# Altium footprint library Lib.PcbLib: 35 footprints (part 2 of 3)
Each footprint in its own frame and in the unit in brackets; x right, y up, seen from the top. Pads: shape width x height; smd on the part's side, far side on the other; paste and mask are expansions set on the pad; w line width, h text height; cw(c..) or ccw(c..) is an arc to the next point about the centre after c.
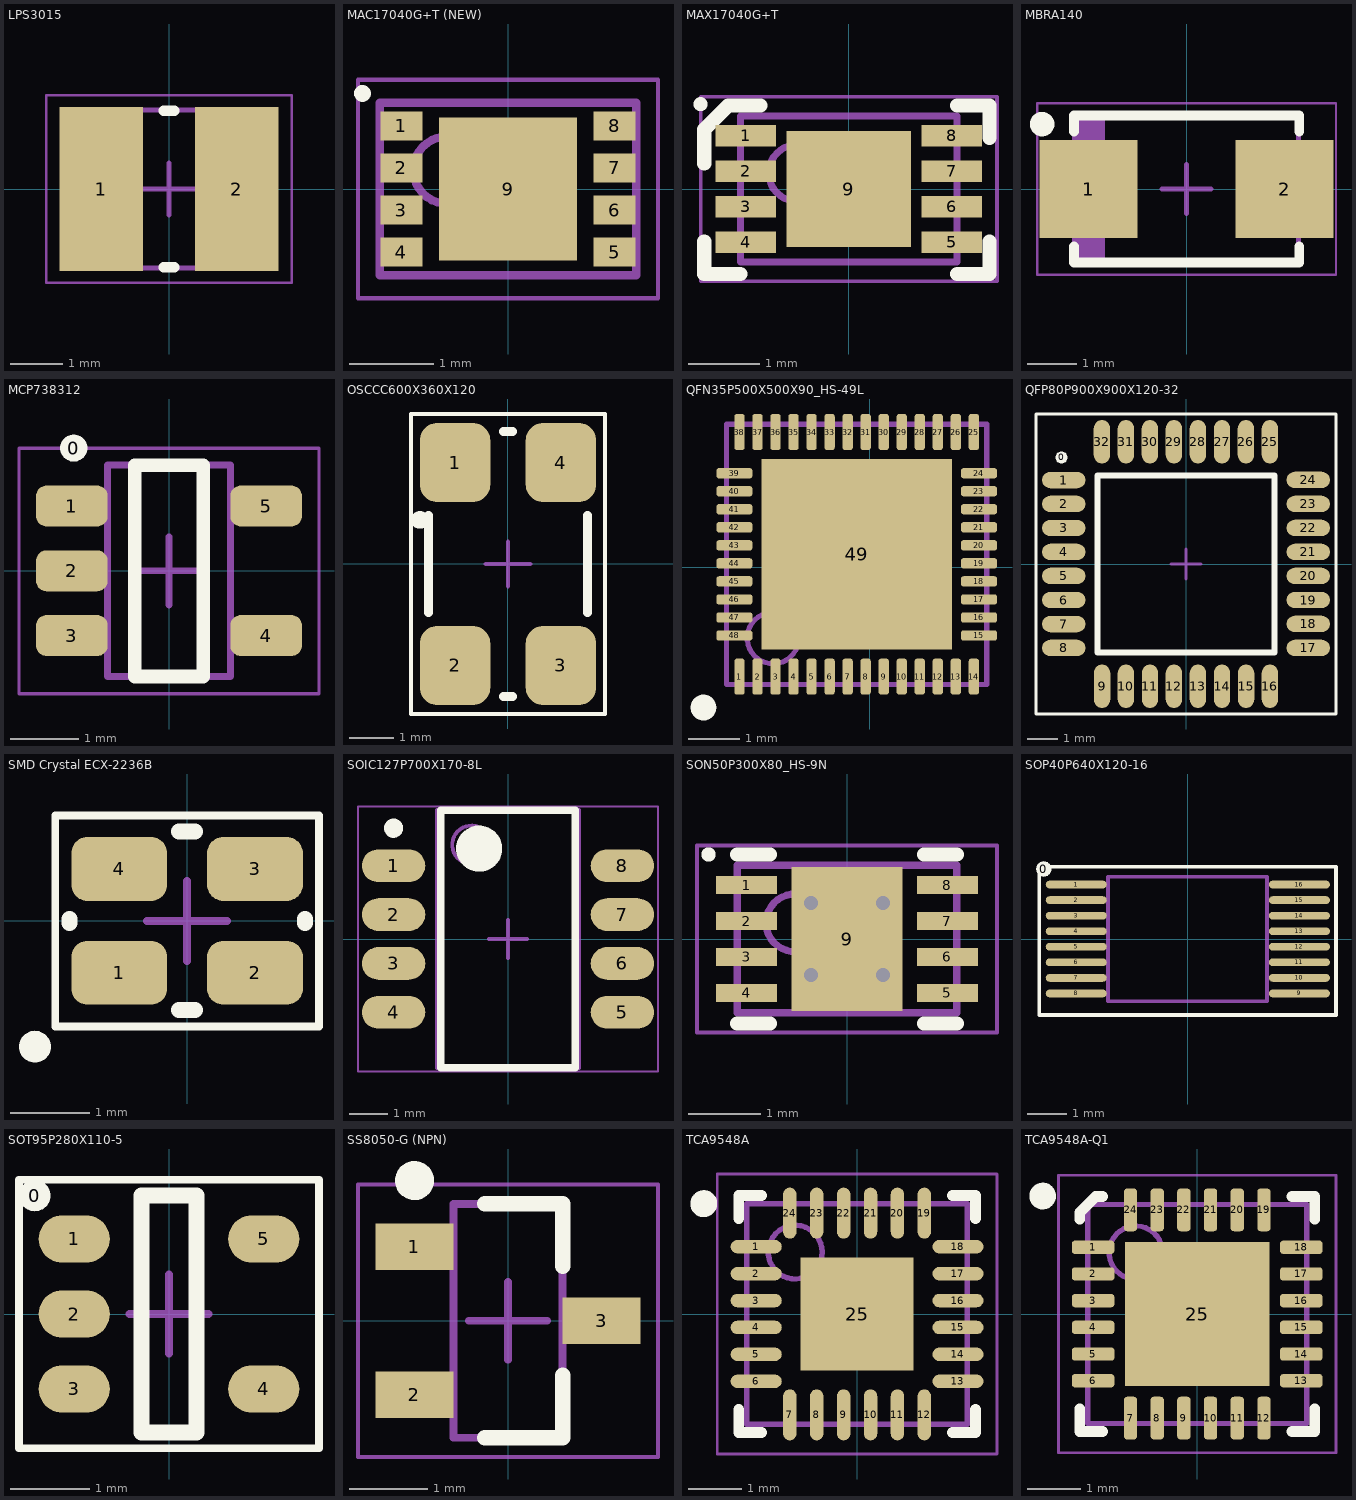
[diagram p1: the footprints below, top view; thin cyan lines are the x and y axes]

## LPS3015 [mm] "Inductor 1u5H"
height 1.5
pads (2):
  rect 1.6x3.15 smd: 1(-1.3,0) 2(1.3,0)
Top Overlay:
  lines w0.2: -0.1,-1.5 0.1,-1.5 ; -0.1,1.5 0.1,1.5
Mechanical 13:
  lines w0.1: -1.515,-1.515 -1.515,1.515 1.515,1.515 1.515,-1.515 -1.515,-1.515
Mechanical 15:
  lines w0.05: -2.35,-1.8 -2.35,1.8 2.35,1.8 2.35,-1.8 -2.35,-1.8
  lines w0.1: -0.5,0 0.5,0 ; 0,-0.5 0,0.5
3D body: height 1.5, standoff 0, extent -1.515,-1.515 1.515,1.515

## MAC17040G+T (NEW) [mm] "PSON, 8-Leads, Body 2,00x3,00mm, Pitch 0,50mm, Thermal Pad 1,70x1,64mm, IPC Medium Density"
height 0.75
pads (9):
  rect 0.5x0.35 smd: 1(-1.27,0.75) 2(-1.27,0.25) 3(-1.27,-0.25) 4(-1.27,-0.75) 5(1.27,-0.75) 6(1.27,-0.25) 7(1.27,0.25) 8(1.27,0.75)
  rect 1.64x1.7 smd: 9(0,0)
Top Overlay:
  circle w0.1: c-1.732,1.137 r0.05
Mechanical 13:
  circle w0.1: c-0.725,0.225 r0.4
  lines w0.1: -1.525,-1.025 1.525,-1.025 1.525,1.025 -1.525,1.025 -1.525,-1.025
Mechanical 15:
  lines w0.05: -1.785,-1.3 1.785,-1.3 1.785,1.3 -1.785,1.3 -1.785,-1.3
  lines w0.1: -0.5,0 0.5,0 ; 0,-0.5 0,0.5
3D body: height 0.75, standoff 0.02, extent -1.525,-1.025 1.525,1.025

## MAX17040G+T [mm] "Battery Management IC"
height 0.8
pads (9):
  rect 0.85x0.3 smd: 1(-1.45,0.75) 2(-1.45,0.25) 3(-1.45,-0.25) 4(-1.45,-0.75) 5(1.45,-0.75) 6(1.45,-0.25) 7(1.45,0.25) 8(1.45,0.75)
  rect 1.75x1.63 smd: 9(0,0)
Top Overlay:
  circle w0.1: c-2.085,1.194 r0.05
  lines w0.2: -2.032,-0.739 -2.032,-1.194 -1.526,-1.194 ; -2.032,0.358 -2.032,0.813 ; -2.032,0.838 -1.695,1.175 -1.24,1.175 ; 1.525,-1.194 1.98,-1.194 ; 1.525,1.175 1.98,1.175 1.98,0.72 ; 1.981,-1.194 1.981,-0.739
Mechanical 13:
  circle w0.1: c-0.725,0.225 r0.4
  lines w0.1: -1.525,-1.025 1.525,-1.025 1.525,1.025 -1.525,1.025 -1.525,-1.025
Mechanical 15:
  lines w0.05: -2.085,-1.3 2.085,-1.3 2.085,1.3 -2.085,1.3 -2.085,-1.3
  lines w0.1: -0.5,0 0.5,0 ; 0,-0.5 0,0.5
3D body: height 0.8, standoff 0.05, extent -1.525,-1.025 1.525,1.025

## MBRA140 [mm] "Molded Diode, 2-Leads, Body 4,31x2,60mm, IPC Medium Density"
height 2.2
pads (2):
  rect 2x2 smd: 1(-2,0) 2(2,0)
Top Overlay:
  circle w0.25: c-2.95,1.325 r0.125
  lines w0.2: -2.3,-1.175 -2.3,-1.5 2.3,-1.5 2.3,-1.175 ; -2.3,1.175 -2.3,1.5 2.3,1.5 2.3,1.175
Mechanical 13:
  rectangle: -2.285,-1.46 -1.67,1.46
  lines w0.1: -2.285,-1.46 -2.285,1.46 2.285,1.46 2.285,-1.46 -2.285,-1.46
Mechanical 15:
  lines w0.05: -3.05,-1.75 -3.05,1.75 3.05,1.75 3.05,-1.75 -3.05,-1.75
  lines w0.1: -0.5,0 0.5,0 ; 0,-0.5 0,0.5
3D body: height 2.2, standoff 0, extent -2.285,-1.46 2.285,1.46

## MCP738312 [mm] "SOT23, 5-Leads, Body 2,90x2,70mm, Pitch 0,95mm, IPC Medium Density"
height 1.45
pads (6):
  round 0.4 on Top Overlay: 0(-1.397,1.8)
  rrect50% 1.05x0.6 smd: 1(-1.425,0.95) 2(-1.425,0) 3(-1.425,-0.95) 4(1.425,-0.95) 5(1.425,0.95)
Top Overlay:
  lines w0.2: -0.5,-1.55 0.5,-1.55 0.5,1.55 -0.5,1.55 -0.5,-1.55
Mechanical 13:
  lines w0.1: -0.9,-1.55 -0.9,1.55 0.9,1.55 0.9,-1.55 -0.9,-1.55
Mechanical 15:
  lines w0.05: -2.2,-1.8 -2.2,1.8 2.2,1.8 2.2,-1.8 -2.2,-1.8
  lines w0.1: -0.5,0 0.5,0 ; 0,-0.5 0,0.5
3D body: height 1.45, standoff 0, extent -0.9,-1.55 0.9,1.55

## OSCCC600X360X120 [mm] "Oscillator 6.0 x 3.6mm"
height 1.2
pads (4):
  rrect50% 1.6x1.8 smd: 1(-1.2,2.3) 2(-1.2,-2.3) 3(1.2,-2.3) 4(1.2,2.3)
Top Overlay:
  circle w0.2: c-2,1 r0.1
  lines w0.099: -2.2,-3.4 2.2,-3.4 2.2,3.4 -2.2,3.4 -2.2,-3.4
  lines w0.2: -1.8,-1.1 -1.8,1.1 ; -0.1,-3 0.1,-3 ; -0.1,3 0.1,3 ; 1.8,-1.1 1.8,1.1
Mechanical 15:
  lines w0.1: -0.5,0 0.5,0 ; 0,-0.5 0,0.5
3D body: height 1.2, standoff 1.05, extent -1.55,-2.75 1.55,2.75
3D body: height 1.05, standoff 0, extent -1.8,-3 1.8,3

## QFN35P500X500X90_HS-49L [mm] "QFN, 48-Leads, Body 5,00x5,00mm, Pitch 0,35mm, Thermal Pad 3,70x3,70mm, IPC High Density"
height 0.9
pads (49):
  rrect50% 0.2x0.7 smd: 1(-2.529,-2.121) 2(-2.179,-2.121) 3(-1.829,-2.121) 4(-1.479,-2.121) 5(-1.129,-2.121) 6(-0.779,-2.121) 7(-0.429,-2.121) 8(-0.079,-2.121) 9(0.271,-2.121) 10(0.621,-2.121) 11(0.971,-2.121) 12(1.321,-2.121) 13(1.671,-2.121) 14(2.021,-2.121) 25(2.021,2.629) 26(1.671,2.629) 27(1.321,2.629) 28(0.971,2.629) 29(0.621,2.629) 30(0.271,2.629) 31(-0.079,2.629) 32(-0.429,2.629) 33(-0.779,2.629) 34(-1.129,2.629) 35(-1.479,2.629) 36(-1.829,2.629) 37(-2.179,2.629) 38(-2.529,2.629)
  rrect50% 0.7x0.2 smd: 15(2.121,-1.321) 16(2.121,-0.971) 17(2.121,-0.621) 18(2.121,-0.271) 19(2.121,0.079) 20(2.121,0.429) 21(2.121,0.779) 22(2.121,1.129) 23(2.121,1.479) 24(2.121,1.829) 39(-2.629,1.829) 40(-2.629,1.479) 41(-2.629,1.129) 42(-2.629,0.779) 43(-2.629,0.429) 44(-2.629,0.079) 45(-2.629,-0.271) 46(-2.629,-0.621) 47(-2.629,-0.971) 48(-2.629,-1.321)
  rect 3.7x3.7 smd: 49(-0.254,0.254)
Top Overlay:
  circle w0.25: c-3.229,-2.721 r0.125
Mechanical 13:
  circle w0.1: c-1.879,-1.371 r0.5
  lines w0.1: -2.779,-2.271 -2.779,2.779 2.271,2.779 2.271,-2.271 -2.779,-2.271
3D body: height 0.9, standoff 0, extent -2.779,-2.271 2.271,2.779

## QFP80P900X900X120-32 [mm] "TQFP, 32-Leads, Body 7x7mm (max), Pitch 0,80mm, IPC High Density"
height 1.2
pads (33):
  round 0.4 on Top Overlay: 0(-4.15,3.55)
  oval 1.45x0.55 smd: 1(-4.075,2.8) 2(-4.075,2) 3(-4.075,1.2) 4(-4.075,0.4) 5(-4.075,-0.4) 6(-4.075,-1.2) 7(-4.075,-2) 8(-4.075,-2.8) 17(4.075,-2.8) 18(4.075,-2) 19(4.075,-1.2) 20(4.075,-0.4) 21(4.075,0.4) 22(4.075,1.2) 23(4.075,2) 24(4.075,2.8)
  oval 0.55x1.45 smd: 9(-2.8,-4.075) 10(-2,-4.075) 11(-1.2,-4.075) 12(-0.4,-4.075) 13(0.4,-4.075) 14(1.2,-4.075) 15(2,-4.075) 16(2.8,-4.075) 25(2.8,4.075) 26(2,4.075) 27(1.2,4.075) 28(0.4,4.075) 29(-0.4,4.075) 30(-1.2,4.075) 31(-2,4.075) 32(-2.8,4.075)
Top Overlay:
  lines w0.099: -5,-5 5,-5 5,5 -5,5 -5,-5
  lines w0.2: -2.95,-2.95 -2.95,2.95 2.95,2.95 2.95,-2.95 -2.95,-2.95
Mechanical 15:
  lines w0.099: -0.5,0 0.5,0 ; 0,-0.5 0,0.5
3D body: height 1.2, standoff 0.05, extent -3.5,-3.5 3.5,3.5
3D body: height 0.7, standoff 0, extent -4,2.6 -3.9,3
3D body: height 0.1, standoff 0, extent -4.5,2.6 -4,3
3D body: height 0.7, standoff 0.6, extent -3.9,2.6 -3.5,3
3D body: height 0.7, standoff 0.6, extent -3.9,1.8 -3.5,2.2
3D body: height 0.1, standoff 0, extent -4.5,1.8 -4,2.2
3D body: height 0.7, standoff 0, extent -4,1.8 -3.9,2.2
3D body: height 0.7, standoff 0.6, extent -3.9,1 -3.5,1.4
3D body: height 0.1, standoff 0, extent -4.5,1 -4,1.4
3D body: height 0.7, standoff 0, extent -4,1 -3.9,1.4
3D body: height 0.7, standoff 0.6, extent -3.9,0.2 -3.5,0.6
3D body: height 0.1, standoff 0, extent -4.5,0.2 -4,0.6
3D body: height 0.7, standoff 0, extent -4,0.2 -3.9,0.6
3D body: height 0.7, standoff 0.6, extent -3.9,-0.6 -3.5,-0.2
3D body: height 0.1, standoff 0, extent -4.5,-0.6 -4,-0.2
3D body: height 0.7, standoff 0, extent -4,-0.6 -3.9,-0.2
3D body: height 0.7, standoff 0.6, extent -3.9,-1.4 -3.5,-1
3D body: height 0.1, standoff 0, extent -4.5,-1.4 -4,-1
3D body: height 0.7, standoff 0, extent -4,-1.4 -3.9,-1
3D body: height 0.7, standoff 0.6, extent -3.9,-2.2 -3.5,-1.8
3D body: height 0.1, standoff 0, extent -4.5,-2.2 -4,-1.8
3D body: height 0.7, standoff 0, extent -4,-2.2 -3.9,-1.8
3D body: height 0.7, standoff 0.6, extent -3.9,-3 -3.5,-2.6
3D body: height 0.1, standoff 0, extent -4.5,-3 -4,-2.6
3D body: height 0.7, standoff 0, extent -4,-3 -3.9,-2.6
3D body: height 0.7, standoff 0, extent 2.6,-4 3,-3.9
3D body: height 0.1, standoff 0, extent 2.6,-4.5 3,-4
3D body: height 0.7, standoff 0.6, extent 2.6,-3.9 3,-3.5
3D body: height 0.7, standoff 0, extent 1.8,-4 2.2,-3.9
3D body: height 0.1, standoff 0, extent 1.8,-4.5 2.2,-4
3D body: height 0.7, standoff 0.6, extent 1.8,-3.9 2.2,-3.5
3D body: height 0.7, standoff 0, extent 1,-4 1.4,-3.9
3D body: height 0.1, standoff 0, extent 1,-4.5 1.4,-4
3D body: height 0.7, standoff 0.6, extent 1,-3.9 1.4,-3.5
3D body: height 0.7, standoff 0, extent 0.2,-4 0.6,-3.9
3D body: height 0.1, standoff 0, extent 0.2,-4.5 0.6,-4
3D body: height 0.7, standoff 0.6, extent 0.2,-3.9 0.6,-3.5
3D body: height 0.7, standoff 0, extent -0.6,-4 -0.2,-3.9
3D body: height 0.1, standoff 0, extent -0.6,-4.5 -0.2,-4
3D body: height 0.7, standoff 0.6, extent -0.6,-3.9 -0.2,-3.5
3D body: height 0.7, standoff 0, extent -1.4,-4 -1,-3.9
3D body: height 0.1, standoff 0, extent -1.4,-4.5 -1,-4
3D body: height 0.7, standoff 0.6, extent -1.4,-3.9 -1,-3.5
3D body: height 0.7, standoff 0, extent -2.2,-4 -1.8,-3.9
3D body: height 0.1, standoff 0, extent -2.2,-4.5 -1.8,-4
3D body: height 0.7, standoff 0.6, extent -2.2,-3.9 -1.8,-3.5
3D body: height 0.7, standoff 0.6, extent -3,-3.9 -2.6,-3.5
3D body: height 0.1, standoff 0, extent -3,-4.5 -2.6,-4
3D body: height 0.7, standoff 0, extent -3,-4 -2.6,-3.9
3D body: height 0.7, standoff 0, extent 3.9,2.6 4,3
3D body: height 0.1, standoff 0, extent 4,2.6 4.5,3
3D body: height 0.7, standoff 0.6, extent 3.5,2.6 3.9,3
3D body: height 0.7, standoff 0, extent 3.9,1.8 4,2.2
3D body: height 0.1, standoff 0, extent 4,1.8 4.5,2.2
3D body: height 0.7, standoff 0.6, extent 3.5,1.8 3.9,2.2
3D body: height 0.7, standoff 0, extent 3.9,1 4,1.4
3D body: height 0.1, standoff 0, extent 4,1 4.5,1.4
3D body: height 0.7, standoff 0.6, extent 3.5,1 3.9,1.4
3D body: height 0.7, standoff 0, extent 3.9,0.2 4,0.6
3D body: height 0.1, standoff 0, extent 4,0.2 4.5,0.6
3D body: height 0.7, standoff 0.6, extent 3.5,0.2 3.9,0.6
3D body: height 0.7, standoff 0, extent 3.9,-0.6 4,-0.2
3D body: height 0.1, standoff 0, extent 4,-0.6 4.5,-0.2
3D body: height 0.7, standoff 0.6, extent 3.5,-0.6 3.9,-0.2
3D body: height 0.7, standoff 0, extent 3.9,-1.4 4,-1
3D body: height 0.1, standoff 0, extent 4,-1.4 4.5,-1
3D body: height 0.7, standoff 0.6, extent 3.5,-1.4 3.9,-1
3D body: height 0.7, standoff 0, extent 3.9,-2.2 4,-1.8
3D body: height 0.1, standoff 0, extent 4,-2.2 4.5,-1.8
3D body: height 0.7, standoff 0.6, extent 3.5,-2.2 3.9,-1.8
3D body: height 0.7, standoff 0.6, extent 3.5,-3 3.9,-2.6
3D body: height 0.1, standoff 0, extent 4,-3 4.5,-2.6
3D body: height 0.7, standoff 0, extent 3.9,-3 4,-2.6
3D body: height 0.7, standoff 0, extent -3,3.9 -2.6,4
3D body: height 0.1, standoff 0, extent -3,4 -2.6,4.5
3D body: height 0.7, standoff 0.6, extent -3,3.5 -2.6,3.9
3D body: height 0.7, standoff 0, extent -2.2,3.9 -1.8,4
3D body: height 0.1, standoff 0, extent -2.2,4 -1.8,4.5
3D body: height 0.7, standoff 0.6, extent -2.2,3.5 -1.8,3.9
3D body: height 0.7, standoff 0, extent -1.4,3.9 -1,4
3D body: height 0.1, standoff 0, extent -1.4,4 -1,4.5
3D body: height 0.7, standoff 0.6, extent -1.4,3.5 -1,3.9
3D body: height 0.7, standoff 0, extent -0.6,3.9 -0.2,4
3D body: height 0.1, standoff 0, extent -0.6,4 -0.2,4.5
3D body: height 0.7, standoff 0.6, extent -0.6,3.5 -0.2,3.9
3D body: height 0.7, standoff 0, extent 0.2,3.9 0.6,4
3D body: height 0.1, standoff 0, extent 0.2,4 0.6,4.5
3D body: height 0.7, standoff 0.6, extent 0.2,3.5 0.6,3.9
3D body: height 0.7, standoff 0, extent 1,3.9 1.4,4
3D body: height 0.1, standoff 0, extent 1,4 1.4,4.5
3D body: height 0.7, standoff 0.6, extent 1,3.5 1.4,3.9
3D body: height 0.7, standoff 0, extent 1.8,3.9 2.2,4
3D body: height 0.1, standoff 0, extent 1.8,4 2.2,4.5
3D body: height 0.7, standoff 0.6, extent 1.8,3.5 2.2,3.9
3D body: height 0.7, standoff 0.6, extent 2.6,3.5 3,3.9
3D body: height 0.1, standoff 0, extent 2.6,4 3,4.5
3D body: height 0.7, standoff 0, extent 2.6,3.9 3,4

## SMD Crystal ECX-2236B [mm] "40MHz 10ppm"
pads (5):
  rrect50% 1.2x0.8 smd: 1(-0.85,-0.65) 2(0.85,-0.65) 3(0.85,0.65) 4(-0.85,0.65)
  round 0.4 on Top Overlay: ""(-1.905,-1.575)
Top Overlay:
  lines w0.099: -1.651,-1.321 1.651,-1.321 1.651,1.321 -0.674,1.321 -1.651,1.321 -1.651,-1.321
  lines w0.2: -1.473,-0.025 -1.473,0.025 ; -0.1,-1.118 0.1,-1.118 ; -0.1,1.118 0.1,1.118 ; 1.473,-0.025 1.473,0.025
Mechanical 15:
  lines w0.1: -0.5,0 0.5,0 ; 0,-0.5 0,0.5
3D body: height 0.55, standoff 0, extent -1.245,-0.991 1.245,1

## SOIC127P700X170-8L [mm] "SOIC, 8-Leads, Body 6,50x3,50mm, Pitch 1,27mm, IPC High Density"
height 1.7
pads (8):
  oval 1.65x0.85 smd: 1(-2.975,1.905) 2(-2.975,0.635) 3(-2.975,-0.635) 4(-2.975,-1.905) 5(2.975,-1.905) 6(2.975,-0.635) 7(2.975,0.635) 8(2.975,1.905)
Top Overlay:
  circle w0.6: c-0.75,2.35 r0.3
  circle w0.25: c-2.975,2.88 r0.125
  lines w0.2: -1.75,-3.35 1.75,-3.35 1.75,3.35 -1.75,3.35 -1.75,-3.35
Mechanical 13:
  circle w0.1: c-0.95,2.45 r0.5
  lines w0.1: -1.85,-3.35 1.85,-3.35 1.85,3.35 -1.85,3.35 -1.85,-3.35
Mechanical 15:
  lines w0.05: -3.9,-3.45 3.9,-3.45 3.9,3.45 -3.9,3.45 -3.9,-3.45
  lines w0.1: -0.5,0 0.5,0 ; 0,-0.5 0,0.5
3D body: height 1.7, standoff 0.1, extent -1.85,-3.35 1.85,3.35

## SON50P300X80_HS-9N [mm] "SON, 8-Leads, Body 2,00x3,00mm, Pitch 0,50mm, Thermal Pad 2,00x1,54mm, IPC Medium Density"
height 0.8
pads (9):
  rect 0.85x0.25 smd: 1(-1.395,0.75) 2(-1.395,0.25) 3(-1.395,-0.25) 4(-1.395,-0.75) 5(1.395,-0.75) 6(1.395,-0.25) 7(1.395,0.25) 8(1.395,0.75)
  rect 1.54x2 smd: 9(0,0)
via -0.5,0.5 diameter 0.5 hole 0.2
via 0.5,0.5 diameter 0.5 hole 0.2
via -0.5,-0.5 diameter 0.5 hole 0.2
via 0.5,-0.5 diameter 0.5 hole 0.2
Top Overlay:
  circle w0.1: c-1.925,1.175 r0.05
  lines w0.2: -1.525,-1.175 -1.07,-1.175 ; -1.525,1.175 -1.07,1.175 ; 1.07,-1.175 1.525,-1.175 ; 1.07,1.175 1.525,1.175
Mechanical 13:
  circle w0.1: c-0.725,0.225 r0.4
  lines w0.1: -1.525,-1.025 -1.525,1.025 1.525,1.025 1.525,-1.025 -1.525,-1.025
Mechanical 15:
  lines w0.05: -2.085,-1.3 -2.085,1.3 2.085,1.3 2.085,-1.3 -2.085,-1.3
  lines w0.1: -0.5,0 0.5,0 ; 0,-0.5 0,0.5
3D body: height 0.8, standoff 0.02, extent -1.525,-1.025 1.525,1.025

## SOP40P640X120-16 [mm] "TVSOP, 16-Leads, Body 3,6x4,4mm (max), Pitch 0,40mm, IPC High Density"
height 1.2
pads (17):
  round 0.4 on Top Overlay: 0(-3.7,1.8)
  oval 1.57x0.2 smd: 1(-2.865,1.4) 2(-2.865,1) 3(-2.865,0.6) 4(-2.865,0.2) 5(-2.865,-0.2) 6(-2.865,-0.6) 7(-2.865,-1) 8(-2.865,-1.4) 9(2.875,-1.4) 10(2.875,-1) 11(2.875,-0.6) 12(2.875,-0.2) 13(2.875,0.2) 14(2.875,0.6) 15(2.875,1) 16(2.875,1.4)
Top Overlay:
  lines w0.099: -3.815,-1.95 3.815,-1.95 3.815,1.86 -3.815,1.86 -3.815,-1.95
Mechanical 13:
  lines w0.1: -2.045,-1.6 -2.045,1.6 2.045,1.6 2.045,-1.6 -2.045,-1.6
3D body "TVSOP16.stp": height 1.19, standoff -0.02, extent -3.287,-1.899 3.288,1.801

## SOT95P280X110-5 [mm] "SOT23, 5-Leads, Body 3,0x3,0mm (max), Pitch 0,95mm, IPC High Density"
height 1.1
pads (6):
  round 0.4 on Top Overlay: 0(-1.7,1.5)
  oval 0.9x0.6 smd: 1(-1.2,0.95) 2(-1.2,0) 3(-1.2,-0.95) 4(1.2,-0.95) 5(1.2,0.95)
Top Overlay:
  lines w0.099: -1.9,-1.7 1.9,-1.7 1.9,1.7 -1.9,1.7 -1.9,-1.7
  lines w0.2: -0.35,-1.5 0.35,-1.5 0.35,1.5 -0.35,1.5 -0.35,-1.5
Mechanical 15:
  lines w0.099: -0.5,0 0.5,0 ; 0,-0.5 0,0.5
3D body: height 1.1, standoff 0.1, extent -0.8,-1.45 0.8,1.45
3D body: height 0.8, standoff 0.7, extent 0.8,0.75 1,1.15
3D body: height 0.8, standoff 0, extent 1,0.75 1.1,1.15
3D body: height 0.1, standoff 0, extent 1.1,0.75 1.4,1.15
3D body: height 0.1, standoff 0, extent 1.1,-1.15 1.4,-0.75
3D body: height 0.8, standoff 0, extent 1,-1.15 1.1,-0.75
3D body: height 0.8, standoff 0.7, extent 0.8,-1.15 1,-0.75
3D body: height 0.1, standoff 0, extent -1.4,-1.15 -1.1,-0.75
3D body: height 0.8, standoff 0, extent -1.1,-1.15 -1,-0.75
3D body: height 0.8, standoff 0.7, extent -1,-1.15 -0.8,-0.75
3D body: height 0.1, standoff 0, extent -1.4,-0.2 -1.1,0.2
3D body: height 0.8, standoff 0, extent -1.1,-0.2 -1,0.2
3D body: height 0.8, standoff 0.7, extent -1,-0.2 -0.8,0.2
3D body: height 0.1, standoff 0, extent -1.4,0.75 -1.1,1.15
3D body: height 0.8, standoff 0, extent -1.1,0.75 -1,1.15
3D body: height 0.8, standoff 0.7, extent -1,0.75 -0.8,1.15

## SS8050-G (NPN) [mm] "SOT23, 3-Leads, Body 2,90x2,45mm, Pitch 0,95mm, IPC Medium Density"
height 1.15
pads (3):
  rect 1x0.6 smd: 1(-1.2,0.95) 2(-1.2,-0.95) 3(1.2,0)
Top Overlay:
  circle w0.25: c-1.2,1.8 r0.125
  lines w0.2: -0.3,-1.5 0.7,-1.5 0.7,-0.7 ; -0.3,1.5 0.7,1.5 0.7,0.7
Mechanical 13:
  lines w0.1: -0.7,-1.5 0.7,-1.5 0.7,1.5 -0.7,1.5 -0.7,-1.5
Mechanical 15:
  lines w0.05: -1.925,-1.75 1.925,-1.75 1.925,1.75 -1.925,1.75 -1.925,-1.75
  lines w0.1: -0.5,0 0.5,0 ; 0,-0.5 0,0.5
3D body: height 1.15, standoff 0.1, extent -0.7,-1.5 0.7,1.5

## TCA9548A [mm] "QFN, 24-Leads, Body 4,00x4,00mm, Pitch 0,5Low-Voltage 8-Channel I2C Switch , 0mm, Thermal Pad 2,10x2,10mm, IPC Medium Density"
height 1
pads (25):
  oval 0.95x0.25 smd: 1(-1.875,1.25) 2(-1.875,0.75) 3(-1.875,0.25) 4(-1.875,-0.25) 5(-1.875,-0.75) 6(-1.875,-1.25) 13(1.875,-1.25) 14(1.875,-0.75) 15(1.875,-0.25) 16(1.875,0.25) 17(1.875,0.75) 18(1.875,1.25)
  oval 0.25x0.95 smd: 7(-1.25,-1.875) 8(-0.75,-1.875) 9(-0.25,-1.875) 10(0.25,-1.875) 11(0.75,-1.875) 12(1.25,-1.875) 19(1.25,1.875) 20(0.75,1.875) 21(0.25,1.875) 22(-0.25,1.875) 23(-0.75,1.875) 24(-1.25,1.875)
  rect 2.1x2.1 smd: 25(0,0)
Top Overlay:
  circle w0.25: c-2.85,2.05 r0.125
  lines w0.2: -2.2,-1.775 -2.2,-2.2 -1.775,-2.2 ; -2.2,1.775 -2.2,2.2 -1.775,2.2 ; 1.775,-2.2 2.2,-2.2 2.2,-1.775 ; 1.775,2.2 2.2,2.2 2.2,1.775
Mechanical 13:
  circle w0.1: c-1.15,1.15 r0.5
  lines w0.1: -2.05,-2.05 2.05,-2.05 2.05,2.05 -2.05,2.05 -2.05,-2.05
Mechanical 15:
  lines w0.05: -2.6,-2.6 2.6,-2.6 2.6,2.6 -2.6,2.6 -2.6,-2.6
  lines w0.1: -0.5,0 0.5,0 ; 0,-0.5 0,0.5
3D body: height 1, standoff 0.05, extent -2.05,-2.05 2.05,2.05

## TCA9548A-Q1 [mm] "QFN, 24-Leads, Body 4,00x4,00mm, Pitch 0,50mm, Thermal Pad 2,70x2,70mm, IPC Medium Density"
height 1
pads (25):
  rrect50% 0.8x0.25 smd: 1(-1.95,1.25) 2(-1.95,0.75) 3(-1.95,0.25) 4(-1.95,-0.25) 5(-1.95,-0.75) 6(-1.95,-1.25) 13(1.95,-1.25) 14(1.95,-0.75) 15(1.95,-0.25) 16(1.95,0.25) 17(1.95,0.75) 18(1.95,1.25)
  rrect50% 0.25x0.8 smd: 7(-1.25,-1.95) 8(-0.75,-1.95) 9(-0.25,-1.95) 10(0.25,-1.95) 11(0.75,-1.95) 12(1.25,-1.95) 19(1.25,1.95) 20(0.75,1.95) 21(0.25,1.95) 22(-0.25,1.95) 23(-0.75,1.95) 24(-1.25,1.95)
  rect 2.7x2.7 smd: 25(0,0)
Top Overlay:
  circle w0.25: c-2.896,2.21 r0.125
  lines w0.2: -2.2,-1.775 -2.2,-2.2 -1.775,-2.2 ; -2.2,1.775 -2.2,1.9 -1.9,2.2 -1.775,2.2 ; 1.775,-2.2 2.2,-2.2 2.2,-1.775 ; 1.775,2.2 2.2,2.2 2.2,1.775
Mechanical 13:
  circle w0.1: c-1.15,1.15 r0.5
  lines w0.1: -2.05,-2.05 2.05,-2.05 2.05,2.05 -2.05,2.05 -2.05,-2.05
Mechanical 15:
  lines w0.05: -2.6,-2.6 2.6,-2.6 2.6,2.6 -2.6,2.6 -2.6,-2.6
  lines w0.1: -0.5,0 0.5,0 ; 0,-0.5 0,0.5
3D body: height 1, standoff 0.5, extent -2.05,-2.05 2.05,2.05